# Altium footprint library PcbLib.PcbLib: 6 footprints
Each footprint in its own frame and in the unit in brackets; x right, y up, seen from the top. Pads: shape width x height; smd on the part's side, far side on the other; paste and mask are expansions set on the pad; w line width, h text height; cw(c..) or ccw(c..) is an arc to the next point about the centre after c.
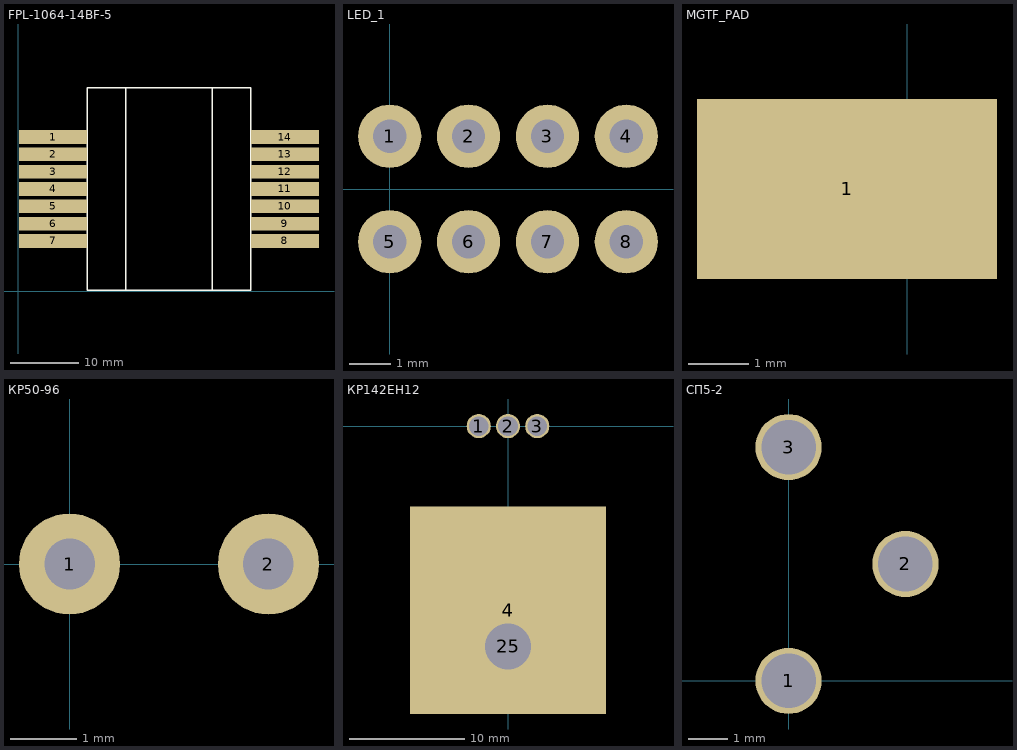
[diagram p0: the footprints below, top view; thin cyan lines are the x and y axes]

## FPL-1064-14BF-5 [mm]
pads (14):
  rect 10x2 smd: 1(5.081,22.625) 2(5.081,20.085) 3(5.081,17.545) 4(5.081,15.005) 5(5.081,12.465) 6(5.081,9.925) 7(5.081,7.385) 8(39.081,7.385) 9(39.081,9.925) 10(39.081,12.465) 11(39.081,15.005) 12(39.081,17.545) 13(39.081,20.085) 14(39.081,22.625)
Top Overlay:
  lines w0.254: 10.081,0.155 34.081,0.155 34.081,29.855 10.081,29.855 10.081,0.155 ; 15.731,0.155 28.431,0.155 28.431,29.855 15.731,29.855 15.731,0.155

## LED_1 [mil]
pads (8):
  round 60 hole 31.5: 1(0,50) 2(74.8,50) 3(149.61,50) 4(224.41,50) 5(0,-50) 6(74.8,-50) 7(149.61,-50) 8(224.41,-50)

## MGTF_PAD [mm]
height 10
pads (1):
  rect 5x3 smd: 1(-1,8.5)

## КР50-96 [mil]
height 393.7
pads (2):
  round 60 hole 30: 1(0,0) 2(118.11,0)

## КР142ЕН12 [mm]
pads (5):
  round 2.1 hole 1.7: 1(-2.54,0) 2(0,0) 3(2.54,0)
  rect 17x18 smd: 4(0,-16)
  round 4 hole 4 unplated: 25(0,-19.132)

## СП5-2 [mm]
pads (3):
  round 1.7 hole 1.4: 1(0,0) 2(3,3) 3(0,6)